# Altium footprint library 0805.PcbLib: 1 footprints
Each footprint in its own frame and in the unit in brackets; x right, y up, seen from the top. Pads: shape width x height; smd on the part's side, far side on the other; paste and mask are expansions set on the pad; w line width, h text height; cw(c..) or ccw(c..) is an arc to the next point about the centre after c.
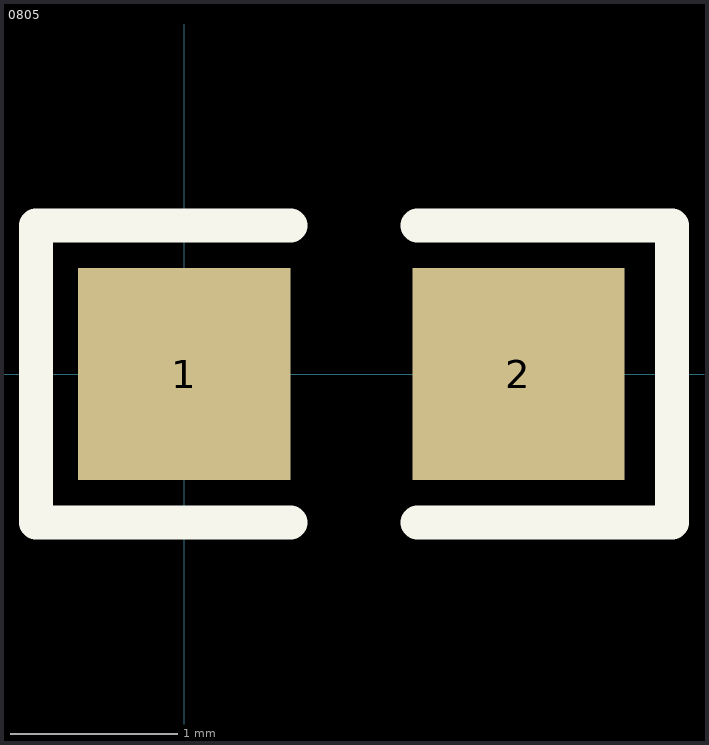
[diagram p0: the footprint, top view; thin cyan lines are the x and y axes]

## 0805 [mm]
height 0.813
pads (2):
  rect 1.27x1.27 smd: 1(0,0) 2(2,0)
TopOverlay:
  lines w0.203: 0.635,-0.889 -0.889,-0.889 -0.889,0.889 0.635,0.889 ; 1.397,-0.889 2.921,-0.889 2.921,0.889 1.397,0.889
3D body: height 0.8, standoff 0.02, extent 0.016,-0.604 2.016,0.646